# Altium footprint library PCBlib.PcbLib: 27 footprints (part 1 of 2)
Each footprint in its own frame and in the unit in brackets; x right, y up, seen from the top. Pads: shape width x height; smd on the part's side, far side on the other; paste and mask are expansions set on the pad; w line width, h text height; cw(c..) or ccw(c..) is an arc to the next point about the centre after c.
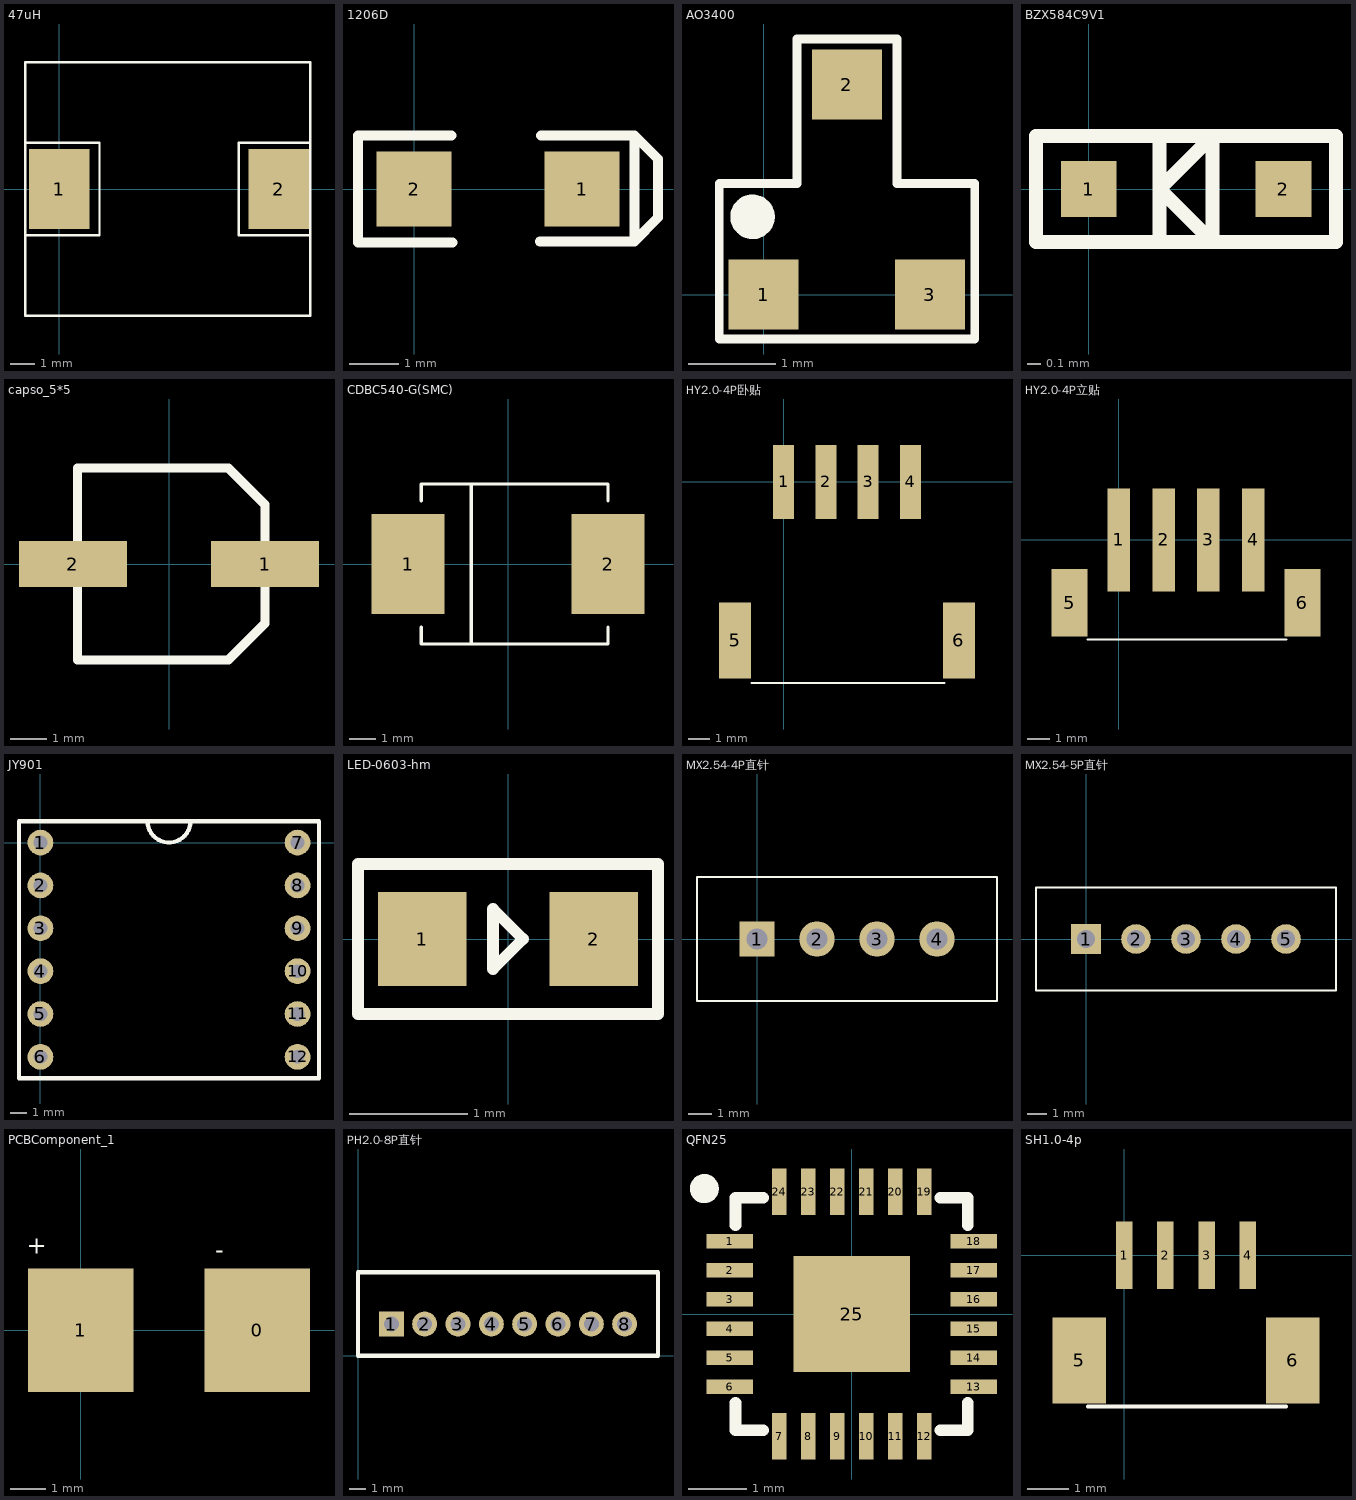
[diagram p0: the footprints below, top view; thin cyan lines are the x and y axes]

## 47uH [mm]
pads (2):
  rect 2.5x3.3 smd: 1(0,0) 2(9,0)
Top Overlay:
  lines w0.1: -1.397,-1.905 1.651,-1.905 1.651,1.905 -1.397,1.905 ; 10.294,-1.905 7.366,-1.905 7.366,1.905 10.294,1.905 ; -1.397,-5.2 -1.397,5.2 10.294,5.2 10.294,-5.2 -1.397,-5.2

## 1206D [mil]
pads (2):
  rect 60x60 smd: 1(135,0) 2(0,0)
Top Overlay:
  lines w8: -45,-43 -45,43 30,43 ; -44,-43 31,-43 ; 101,-42 176,-42 ; 102,43 177,43 ; 177,43 196,24 196,-23 177,-42 177,43
3D body "User Library-res1206-1.step": height 21.65, standoff 0, extent 5.02,-32.49 131,30.5

## AO3400 [mm]
pads (3):
  rect 0.8x0.8 smd: 1(0,0) 2(0.95,2.4) 3(1.9,0)
Top Overlay:
  circle w0.254: c-0.127,0.889 r0.127
  lines w0.1: -0.508,-0.508 -0.508,1.27 0.381,1.27 0.381,2.921 1.524,2.921 1.524,1.27 2.413,1.27 2.413,0.635 2.413,-0.508 -0.508,-0.508

## BZX584C9V1 [mm]
pads (2):
  rect 0.4x0.4 smd: 1(0,0) 2(1.4,0)
Top Overlay:
  lines w0.1: 0.508,-0.381 0.508,0.381 ; -0.381,-0.381 1.778,-0.381 1.778,0.381 -0.381,0.381 -0.381,-0.381 ; 0.508,0 0.889,-0.381 0.889,0.381 0.508,0

## capso_5*5 [mm]
pads (2):
  rect 3x1.274 smd: 1(2.667,0) 2(-2.667,0)
Top Overlay:
  lines w0.254: -2.54,-2.667 -2.54,2.667 1.651,2.667 2.667,1.651 2.667,-1.651 1.651,-2.667 -2.54,-2.667
3D body "User Library-ALU-C.STEP": height 5.41, standoff 0, extent -2.874,-2.565 3.026,2.735

## CDBC540-G(SMC) [mil] "Magnetic-Core Inductor with Winding Polarity Marking; 2 Leads"
pads (2):
  rect 110x150 smd: 1(-150,0) 2(150,0)
Top Overlay:
  lines w5: -130,-95 -130,-120 150,-120 150,-95 ; -130,95 -130,120 150,120 150,95 ; -55,-120 -55,120
Mechanical 1:
  lines w1: -130,-120 150,-120 ; -130,120 150,120

## HY2.0-4P卧贴 [mm]
pads (6):
  rect 1x3.5 smd: 1(0,0) 2(2,0) 3(4,0) 4(6,0)
  rect 1.5x3.6 smd: 5(-2.3,-7.5) 6(8.3,-7.5)
Top Overlay:
  lines w0.1: -1.524,-9.525 7.62,-9.525

## HY2.0-4P立贴 [mm]
pads (6):
  rect 1x4.6 smd: 1(0,0) 2(2,0) 3(4,0) 4(6,0)
  rect 1.6x3 smd: 5(-2.2,-2.8) 6(8.2,-2.8)
Top Overlay:
  lines w0.1: -1.397,-4.445 7.493,-4.445

## JY901 [mil]
pads (12):
  round 60 hole 32: 1(0,0) 2(0,-100) 3(0,-200) 4(0,-300) 5(0,-400) 6(0,-500) 7(600,0) 8(600,-100) 9(600,-200) 10(600,-300) 11(600,-400) 12(600,-500)
Top Overlay:
  lines w10: 250,50 ccw(c300,50) 350,50 ; -50,-550 -50,50 650,50 650,-550 -50,-550

## LED-0603-hm [mm]
pads (2):
  rect 0.75x0.8 smd: 1(-0.725,0) 2(0.725,0)
Top Overlay:
  lines w0.1: -1.27,-0.635 -1.27,0.635 1.27,0.635 1.27,-0.635 -1.27,-0.635 ; -0.127,-0.254 0.127,0 -0.127,0.254 -0.127,-0.254

## MX2.54-4P直针 [mm]
pads (4):
  rect 1.5x1.5 hole 0.9: 1(0,0)
  round 1.5 hole 0.9: 2(2.54,0) 3(5.08,0) 4(7.62,0)
Top Overlay:
  lines w0.1: -2.54,-2.625 -2.54,2.625 10.16,2.625 10.16,-2.625 -2.54,-2.625

## MX2.54-5P直针 [mm]
pads (5):
  rect 1.5x1.5 hole 0.9: 1(0,0)
  round 1.5 hole 0.9: 2(2.54,0) 3(5.08,0) 4(7.62,0) 5(10.16,0)
Top Overlay:
  lines w0.1: -2.54,-2.625 12.7,-2.625 12.7,2.625 -2.54,2.625 -2.54,-2.625

## PCBComponent_1 [mm]
pads (2):
  rect 3x3.5 smd: 0(5,0) 1(0,0)
Top Overlay:
  text "-" at 3.81,2.032 h0.5
  text "+" at -1.524,2.159 h0.5

## PH2.0-8P直针 [mm]
pads (8):
  rect 1.5x1.5 hole 0.9: 1(2,1.9)
  round 1.5 hole 0.9: 2(4,1.9) 3(6,1.9) 4(8,1.9) 5(10,1.9) 6(12,1.9) 7(14,1.9) 8(16,1.9)
Top Overlay:
  lines w0.254: 0,0 18,0 18,5 0,5 0,0

## QFN25 [mm]
pads (25):
  rect 0.8x0.25 smd: 1(-2.101,1.25) 2(-2.101,0.75) 3(-2.101,0.25) 4(-2.101,-0.25) 5(-2.101,-0.75) 6(-2.101,-1.25) 13(2.101,-1.25) 14(2.101,-0.75) 15(2.101,-0.25) 16(2.101,0.25) 17(2.101,0.75) 18(2.101,1.25)
  rect 0.25x0.8 smd: 7(-1.25,-2.101) 8(-0.75,-2.101) 9(-0.25,-2.101) 10(0.25,-2.101) 11(0.75,-2.101) 12(1.25,-2.101) 19(1.25,2.101) 20(0.75,2.101) 21(0.25,2.101) 22(-0.25,2.101) 23(-0.75,2.101) 24(-1.25,2.101)
  rect 2x2 smd paste+0: 25(0,0)
Top Overlay:
  circle w0.25: c-2.538,2.159 r0.125
  lines w0.2: -2,-1.525 -2,-2 -1.525,-2 ; -2,1.525 -2,2 -1.525,2 ; 1.525,-2 2,-2 2,-1.525 ; 1.525,2 2,2 2,1.525

## SH1.0-4p [mm]
pads (6):
  rect 0.4x1.65 smd: 1(0,0) 2(1,0) 3(2,0) 4(3,0)
  rect 1.3x2.1 smd: 5(-1.1,-2.56) 6(4.1,-2.56)
Top Overlay:
  lines w0.1: -0.889,-3.683 3.937,-3.683